# EAGLE library part IS31FL3731 (library nightcapaudio)
IS31FL3731 PWM LED Matrix Driver
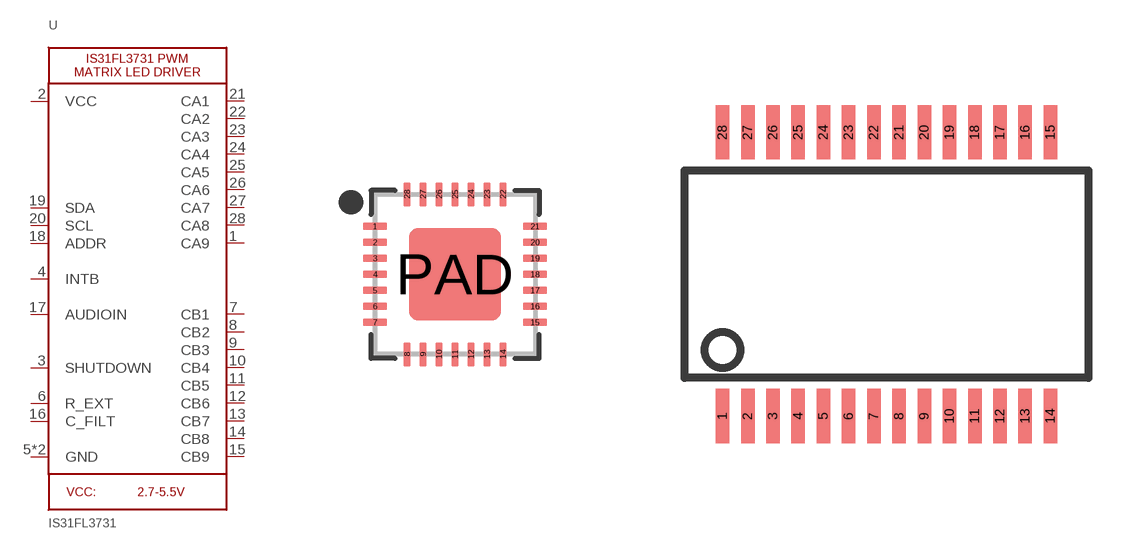
[diagram p1: symbol with the pads of QFN28_4MM_0.4MM; footprints QFN28_4MM_0.4MM, SSOP28DB]

Designator prefix U

## IS31FL3731QFN  [QFN28_4MM_0.4MM]
1  CA9
2  VCC  pwr
3  SHUTDOWN  in
4  INTB  out
5  GND  pwr
6  R_EXT
7  CB1
8  CB2
9  CB3
10  CB4
11  CB5
12  CB6
13  CB7
14  CB8
15  CB9
16  C_FILT
17  AUDIOIN  in
18  ADDR
19  SDA
20  SCL
21  CA1
22  CA2
23  CA3
24  CA4
25  CA5
26  CA6
27  CA7
28  CA8
PAD  GND  pwr

## IS31FL3731SSOP  [SSOP28DB]
1  CA9
2  VCC  pwr
3  SHUTDOWN  in
4  INTB  out
5  GND  pwr
6  R_EXT
7  CB1
8  CB2
9  CB3
10  CB4
11  CB5
12  CB6
13  CB7
14  CB8
15  CB9
16  C_FILT
17  AUDIOIN  in
18  ADDR
19  SDA
20  SCL
21  CA1
22  CA2
23  CA3
24  CA4
25  CA5
26  CA6
27  CA7
28  CA8

## Footprint QFN28_4MM_0.4MM (pad centres in mm)
Source: http://www.issi.com/WW/pdf/31FL3731.pdf
smd 0.6 x 0.18: 1 -2,1.2; 2 -2,0.8; 3 -2,0.4; 4 -2,0; 5 -2,-0.4; 6 -2,-0.8; 7 -2,-1.2; 15 2,-1.2; 16 2,-0.8; 17 2,-0.4; 18 2,0; 19 2,0.4; 20 2,0.8; 21 2,1.2
smd 0.18 x 0.6: 8 -1.2,-2; 9 -0.8,-2; 10 -0.4,-2; 11 0,-2; 12 0.4,-2; 13 0.8,-2; 14 1.2,-2; 22 1.2,2; 23 0.8,2; 24 0.4,2; 25 0,2; 26 -0.4,2; 27 -0.8,2; 28 -1.2,2
smd 2.3 x 2.3: PAD 0,0

## Footprint SSOP28DB (pad centres in mm)
Small Shrink Outline Package
smd 0.348 x 1.397: 1 -4.225,-3.656; 2 -3.575,-3.656; 3 -2.925,-3.656; 4 -2.275,-3.656; 5 -1.625,-3.656; 6 -0.975,-3.656; 7 -0.325,-3.656; 8 0.325,-3.656; 9 0.975,-3.656; 10 1.625,-3.656; 11 2.275,-3.656; 12 2.925,-3.656; 13 3.575,-3.656; 14 4.225,-3.656; 15 4.225,3.656; 16 3.575,3.656; 17 2.925,3.656; 18 2.275,3.656; 19 1.625,3.656; 20 0.975,3.656; 21 0.325,3.656; 22 -0.325,3.656; 23 -0.975,3.656; 24 -1.625,3.656; 25 -2.275,3.656; 26 -2.925,3.656; 27 -3.575,3.656; 28 -4.225,3.656